# Altium footprint library HMC7044LP10BE.PcbLib: 2 footprints
Each footprint in its own frame and in the unit in brackets; x right, y up, seen from the top. Pads: shape width x height; smd on the part's side, far side on the other; paste and mask are expansions set on the pad; w line width, h text height; cw(c..) or ccw(c..) is an arc to the next point about the centre after c.
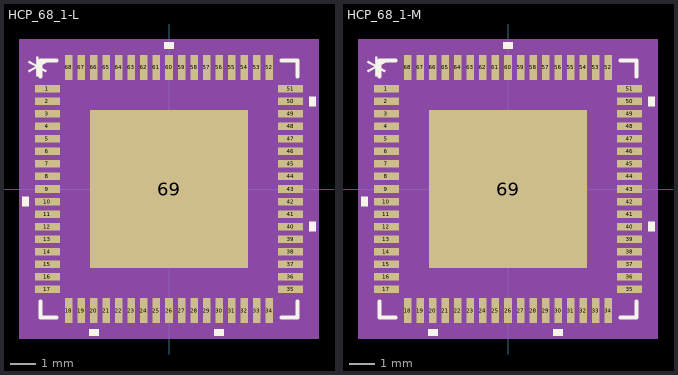
[diagram p0: the footprints below, top view; thin cyan lines are the x and y axes]

## HCP_68_1-L [mm]
pads (69):
  rect 1.005x0.3 smd: 1(-4.852,4) 2(-4.852,3.5) 3(-4.852,3) 4(-4.852,2.5) 5(-4.852,2) 6(-4.852,1.5) 7(-4.852,1) 8(-4.852,0.5) 9(-4.852,0) 10(-4.852,-0.5) 11(-4.852,-1) 12(-4.852,-1.5) 13(-4.852,-2) 14(-4.852,-2.5) 15(-4.852,-3) 16(-4.852,-3.5) 17(-4.852,-4) 35(4.852,-4) 36(4.852,-3.5) 37(4.852,-3) 38(4.852,-2.5) 39(4.852,-2) 40(4.852,-1.5) 41(4.852,-1) 42(4.852,-0.5) 43(4.852,0) 44(4.852,0.5) 45(4.852,1) 46(4.852,1.5) 47(4.852,2) 48(4.852,2.5) 49(4.852,3) 50(4.852,3.5) 51(4.852,4)
  rect 0.3x1.005 smd: 18(-4,-4.852) 19(-3.5,-4.852) 20(-3,-4.852) 21(-2.5,-4.852) 22(-2,-4.852) 23(-1.5,-4.852) 24(-1,-4.852) 25(-0.5,-4.852) 26(0,-4.852) 27(0.5,-4.852) 28(1,-4.852) 29(1.5,-4.852) 30(2,-4.852) 31(2.5,-4.852) 32(3,-4.852) 33(3.5,-4.852) 34(4,-4.852) 52(4,4.852) 53(3.5,4.852) 54(3,4.852) 55(2.5,4.852) 56(2,4.852) 57(1.5,4.852) 58(1,4.852) 59(0.5,4.852) 60(0,4.852) 61(-0.5,4.852) 62(-1,4.852) 63(-1.5,4.852) 64(-2,4.852) 65(-2.5,4.852) 66(-3,4.852) 67(-3.5,4.852) 68(-4,4.852)
  rect 6.3x6.3 smd paste+0 mask+0: 69(0,0)
Top Overlay:
  region: -5.609,-0.309 -5.863,-0.309 -5.863,-0.69 -5.609,-0.69
  region: -2.809,-5.609 -3.19,-5.609 -3.19,-5.863 -2.809,-5.863
  region: 2.191,-5.609 1.81,-5.609 1.81,-5.863 2.191,-5.863
  region: 5.609,-1.309 5.863,-1.309 5.863,-1.69 5.609,-1.69
  region: 5.609,3.691 5.863,3.691 5.863,3.31 5.609,3.31
  region: 0.191,5.609 -0.191,5.609 -0.191,5.863 0.191,5.863
  lines w0.152: -5.127,-4.483 -5.127,-5.127 -4.483,-5.127 ; -5.127,4.483 -5.127,5.127 -4.483,5.127 ; 4.483,-5.127 5.127,-5.127 5.127,-4.483 ; 4.483,5.127 5.127,5.127 5.127,4.483
  text "*" at -5.672,3.996 h1.27
Mechanical 5:
  region: 5.99,-5.99 -5.99,-5.99 -5.99,5.99 5.99,5.99
Mechanical 13:
  drawing of 277 lines, arcs and shapes, not listed
  text "*" at -5.672,3.996 h1.27
Mechanical 15:
  region: -4.25,-5.254 -5.254,-5.254 -5.254,-4.25 -5.604,-4.25 -5.604,4.25 -5.254,4.25 -5.254,5.254 -4.25,5.254 -4.25,5.604 4.25,5.604 4.25,5.254 5.254,5.254 5.254,4.25 5.604,4.25 5.604,-4.25 5.254,-4.25 5.254,-5.254 4.25,-5.254 4.25,-5.604 -4.25,-5.604
  lines w0.152: -5.604,-4.25 -5.254,-4.25 -5.254,-5.254 -4.25,-5.254 -4.25,-5.604 4.25,-5.604 4.25,-5.254 5.254,-5.254 5.254,-4.25 5.604,-4.25 5.604,4.25 5.254,4.25 5.254,5.254 4.25,5.254 4.25,5.604 -4.25,5.604 -4.25,5.254 -5.254,5.254 -5.254,4.25 -5.604,4.25 -5.604,-4.25
3D body "HCP_68_1-L.step": height 0.85, standoff 0, extent -5.05,-5.05 5.05,5.05

## HCP_68_1-M [mm]
pads (69):
  rect 1.005x0.3 smd: 1(-4.852,4) 2(-4.852,3.5) 3(-4.852,3) 4(-4.852,2.5) 5(-4.852,2) 6(-4.852,1.5) 7(-4.852,1) 8(-4.852,0.5) 9(-4.852,0) 10(-4.852,-0.5) 11(-4.852,-1) 12(-4.852,-1.5) 13(-4.852,-2) 14(-4.852,-2.5) 15(-4.852,-3) 16(-4.852,-3.5) 17(-4.852,-4) 35(4.852,-4) 36(4.852,-3.5) 37(4.852,-3) 38(4.852,-2.5) 39(4.852,-2) 40(4.852,-1.5) 41(4.852,-1) 42(4.852,-0.5) 43(4.852,0) 44(4.852,0.5) 45(4.852,1) 46(4.852,1.5) 47(4.852,2) 48(4.852,2.5) 49(4.852,3) 50(4.852,3.5) 51(4.852,4)
  rect 0.3x1.005 smd: 18(-4,-4.852) 19(-3.5,-4.852) 20(-3,-4.852) 21(-2.5,-4.852) 22(-2,-4.852) 23(-1.5,-4.852) 24(-1,-4.852) 25(-0.5,-4.852) 26(0,-4.852) 27(0.5,-4.852) 28(1,-4.852) 29(1.5,-4.852) 30(2,-4.852) 31(2.5,-4.852) 32(3,-4.852) 33(3.5,-4.852) 34(4,-4.852) 52(4,4.852) 53(3.5,4.852) 54(3,4.852) 55(2.5,4.852) 56(2,4.852) 57(1.5,4.852) 58(1,4.852) 59(0.5,4.852) 60(0,4.852) 61(-0.5,4.852) 62(-1,4.852) 63(-1.5,4.852) 64(-2,4.852) 65(-2.5,4.852) 66(-3,4.852) 67(-3.5,4.852) 68(-4,4.852)
  rect 6.3x6.3 smd paste+0 mask+0: 69(0,0)
Top Overlay:
  region: -5.609,-0.309 -5.863,-0.309 -5.863,-0.69 -5.609,-0.69
  region: -2.809,-5.609 -3.19,-5.609 -3.19,-5.863 -2.809,-5.863
  region: 2.191,-5.609 1.81,-5.609 1.81,-5.863 2.191,-5.863
  region: 5.609,-1.309 5.863,-1.309 5.863,-1.69 5.609,-1.69
  region: 5.609,3.691 5.863,3.691 5.863,3.31 5.609,3.31
  region: 0.191,5.609 -0.191,5.609 -0.191,5.863 0.191,5.863
  lines w0.152: -5.127,-4.483 -5.127,-5.127 -4.483,-5.127 ; -5.127,4.483 -5.127,5.127 -4.483,5.127 ; 4.483,-5.127 5.127,-5.127 5.127,-4.483 ; 4.483,5.127 5.127,5.127 5.127,4.483
  text "*" at -5.672,3.996 h1.27
Mechanical 5:
  region: 5.99,-5.99 -5.99,-5.99 -5.99,5.99 5.99,5.99
Mechanical 13:
  drawing of 277 lines, arcs and shapes, not listed
  text "*" at -5.672,3.996 h1.27
Mechanical 15:
  region: -4.25,-5.254 -5.254,-5.254 -5.254,-4.25 -5.604,-4.25 -5.604,4.25 -5.254,4.25 -5.254,5.254 -4.25,5.254 -4.25,5.604 4.25,5.604 4.25,5.254 5.254,5.254 5.254,4.25 5.604,4.25 5.604,-4.25 5.254,-4.25 5.254,-5.254 4.25,-5.254 4.25,-5.604 -4.25,-5.604
  lines w0.152: -5.604,-4.25 -5.254,-4.25 -5.254,-5.254 -4.25,-5.254 -4.25,-5.604 4.25,-5.604 4.25,-5.254 5.254,-5.254 5.254,-4.25 5.604,-4.25 5.604,4.25 5.254,4.25 5.254,5.254 4.25,5.254 4.25,5.604 -4.25,5.604 -4.25,5.254 -5.254,5.254 -5.254,4.25 -5.604,4.25 -5.604,-4.25
3D body "HCP_68_1-M.step": height 0.85, standoff 0, extent -5.05,-5.05 5.05,5.05